# Altium schematic symbol library HKC3225SX-25MHZ-26594-R4V1.SchLib: 1 symbol
Pins are listed as number, name and electrical type; pins without a type are passive.

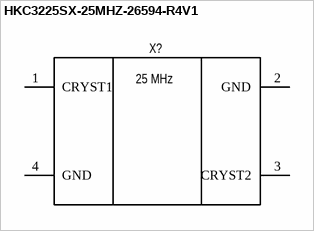
[diagram p0: symbol HKC3225SX-25MHZ-26594-R4V1]

## HKC3225SX-25MHZ-26594-R4V1
designator X?  (value not drawn)
3225 Ceramic SMD Crystals, 25 MHz; Manufacturer_Name: Hong Kong XвЂ™tals Limited; Geometry.Height: 0.8mm; Manufacturer_Part_Number: HKC3225SX-25MHZ-26594-R4V1; Mouser Part Number: *; Mouser Price/Stock: *; Arrow Part Number: *; Arrow Price/Stock: *; Datasheet Link: https://cms.nacsemi.com/content/AuthDatasheets/HKCrystal/C7.pdf
footprint HKC3225SX25MHZ26594R4V1
pins: 1 CRYST1, 2 GND, 3 CRYST2, 4 GND
text: 25 MHz